# EAGLE library part TLV3501AIDBVR (library collin)
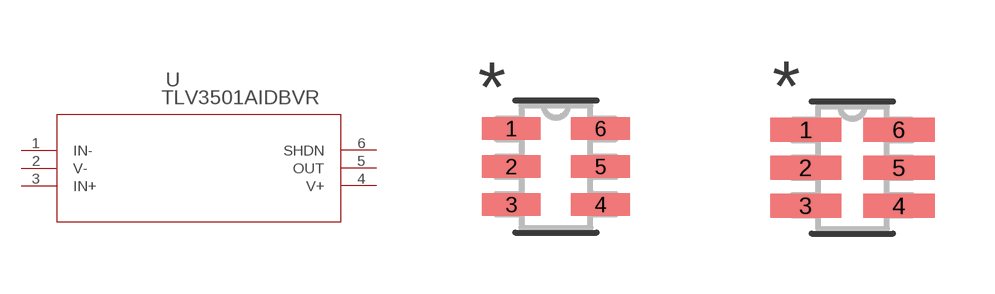
[diagram p13: symbol with the pads of DBV6; footprints DBV6, DBV6-M]

Designator prefix U

## TLV3501AIDBVR (MANUFACTURER_PART_NUMBER: TLV3501AIDBVR; VENDOR: Texas Instruments)  [DBV6]
1  IN-  in
2  V-  pwr
3  IN+  in
4  V+  pwr
5  OUT  out
6  SHDN  pas

## TLV3501AIDBVRDBV6-M (MANUFACTURER_PART_NUMBER: TLV3501AIDBVR; VENDOR: Texas Instruments)  [DBV6-M]
Pads as for DBV6

## TLV3501AIDBVRDBV6-L (MANUFACTURER_PART_NUMBER: TLV3501AIDBVR; VENDOR: Texas Instruments)  [DBV6-L]
Pads as for DBV6

## Footprint DBV6 (pad centres in mm)
smd 1.473 x 0.559: 1 -1.118,0.95; 2 -1.118,0; 3 -1.118,-0.95; 4 1.118,-0.95; 5 1.118,0; 6 1.118,0.95

## Footprint DBV6-M (pad centres in mm)
smd 1.778 x 0.61: 1 -1.168,0.95; 2 -1.168,0; 3 -1.168,-0.95; 4 1.168,-0.95; 5 1.168,0; 6 1.168,0.95

## Footprint DBV6-L (pad centres in mm)
smd 1.168 x 0.508: 1 -1.067,0.95; 2 -1.067,0; 3 -1.067,-0.95; 4 1.067,-0.95; 5 1.067,0; 6 1.067,0.95